# Altium integrated library Infineon XMC4000.IntLib: 43 symbols (part 1 of 3)
Pins are listed as number, name and electrical type; pins without a type are passive.

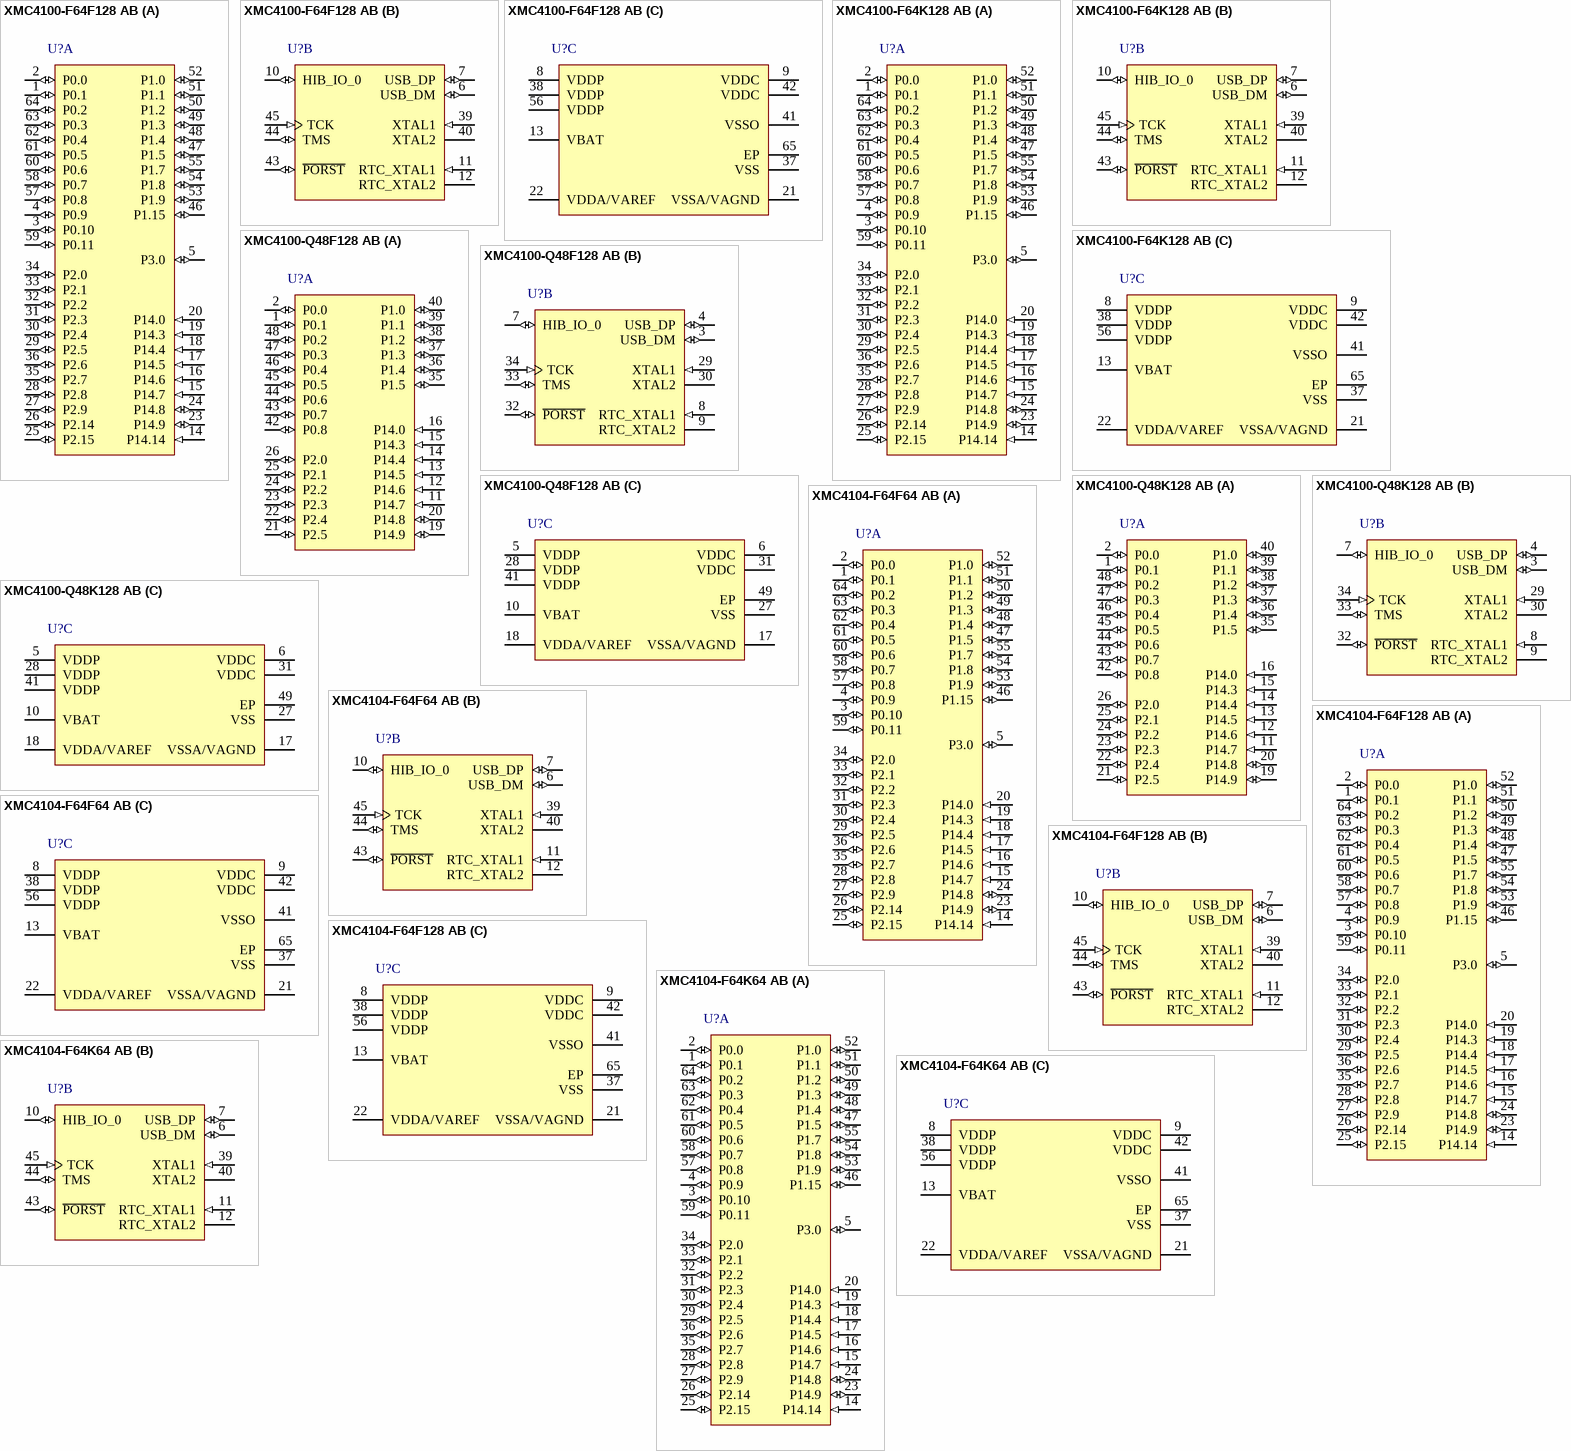
[diagram p0: symbols XMC4100-F64F128 AB to XMC4104-F64K64 AB]

## XMC4100-F64F128 AB
designator U?
80 MHz XMC4100 MCU with 128 KByte Program Memory, 20 KByte SRAM, 3.3 V, -40 to 85 degC, PG-LQFP-64, Green; Manufacturer: Infineon; PartNumber: XMC4100-F64F128 AB; A / D input lines (incl. FADC): 9; Digital I/O Lines: 35; Program Memory: 128.0 KByte; SRAM (incl. Cache): 20.0 KByte; Type of Serial I/O Interfaces: 4xSPI, Dual SPI, Quad SPI, UART, LIN, IIC, IIS; DatasheetVersion: V0.6; PackageVersion: V13; PackageReference: PG-LQFP-64-19; PackageDescription: 64-Pin Plastic (Green) Low Profile Quad Flat Package, 10 x 10 mm Body, 0.5 mm Pitch; Halogen-free: TRUE; Mounting Technology: Surface Mount; ComponentLink1Description: Manufacturer URL; ComponentLink1URL: http://www.infineon.com; ComponentLink2Description: Datasheet; ComponentLink2URL: http://www.infineon.com/dgdl/xmc4100_xmc4200_ds_v0.6_2012_11.pdf?folderId=db3a30433580b3710135a47f3eb76c98&fileId=db3a30433afc7e3e013b3cf9b2816573&location=en.Products.Microcontrollers.32-bit_Industrial_Microcontrollers_based_on_ARM__Cortex_-M.32-bit_XMC4000_Industrial_Microcontrollers_ARM__Cortex_-M4.DATASHEET.xmc4100_xmc4200_ds_v0.6_2012_11.pdf; ComponentLink3Description: Package Specification; ComponentLink3URL: http://www.infineon.com/dgdl/xmc4100_xmc4200_ds_v0.6_2012_11.pdf?folderId=db3a30433580b3710135a47f3eb76c98&fileId=db3a30433afc7e3e013b3cf9b2816573&location=en.Products.Microcontrollers.32-bit_Industrial_Microcontrollers_based_on_ARM__Cortex_-M.32-bit_XMC4000_Industrial_Microcontrollers_ARM__Cortex_-M4.DATASHEET.xmc4100_xmc4200_ds_v0.6_2012_11.pdf
footprint INF-PG-LQFP-64-19-5800X5800TP_N (QFP, 64-Leads, Body 10x10mm, Pitch 0.5mm, Thermal Pad 5.8x5.8mm, IPC Medium Density)
footprint INF-PG-LQFP-64-19-5800X5800TP_L (QFP, 64-Leads, Body 10x10mm, Pitch 0.5mm, Thermal Pad 5.8x5.8mm, IPC High Density)
footprint INF-PG-LQFP-64-19-5800X5800TP_M (QFP, 64-Leads, Body 10x10mm, Pitch 0.5mm, Thermal Pad 5.8x5.8mm, IPC Low Density)
part A pins: 1 P0.1 (io), 2 P0.0 (io), 3 P0.10 (io), 4 P0.9 (io), 5 P3.0 (io), 14 P14.14 (in), 15 P14.7 (in), 16 P14.6 (in), 17 P14.5 (in), 18 P14.4 (in), 19 P14.3 (in), 20 P14.0 (in), 23 P14.9 (io), 24 P14.8 (io), 25 P2.15 (io), 26 P2.14 (io), 27 P2.9 (io), 28 P2.8 (io), 29 P2.5 (io), 30 P2.4 (io), 31 P2.3 (io), 32 P2.2 (io), 33 P2.1 (io), 34 P2.0 (io), 35 P2.7 (io), 36 P2.6 (io), 46 P1.15 (io), 47 P1.5 (io), 48 P1.4 (io), 49 P1.3 (io), 50 P1.2 (io), 51 P1.1 (io), 52 P1.0 (io), 53 P1.9 (io), 54 P1.8 (io), 55 P1.7 (io), 57 P0.8 (io), 58 P0.7 (io), 59 P0.11 (io), 60 P0.6 (io), 61 P0.5 (io), 62 P0.4 (io), 63 P0.3 (io), 64 P0.2 (io)
part B pins: 6 USB_DM (io), 7 USB_DP (io), 10 HIB_IO_0 (io), 11 RTC_XTAL1 (in), 12 RTC_XTAL2, 39 XTAL1 (in), 40 XTAL2, 43 ~{PORST} (io), 44 TMS (io), 45 TCK (in)
part C pins: 8 VDDP (power), 9 VDDC (power), 13 VBAT (power), 21 VSSA/VAGND (power), 22 VDDA/VAREF (power), 37 VSS (power), 38 VDDP (power), 41 VSSO (power), 42 VDDC (power), 56 VDDP (power), 65 EP (power)

## XMC4100-F64K128 AB
designator U?
80 MHz XMC4100 MCU with 128 KByte Program Memory, 20 KByte SRAM, 3.3 V, -40 to 125 degC, PG-LQFP-64, Green; Manufacturer: Infineon; PartNumber: XMC4100-F64K128 AB; A / D input lines (incl. FADC): 9; Digital I/O Lines: 35; Program Memory: 128.0 KByte; SRAM (incl. Cache): 20.0 KByte; Type of Serial I/O Interfaces: 4xSPI, Dual SPI, Quad SPI, UART, LIN, IIC, IIS; DatasheetVersion: V0.6; PackageVersion: V13; PackageReference: PG-LQFP-64-19; PackageDescription: 64-Pin Plastic (Green) Low Profile Quad Flat Package, 10 x 10 mm Body, 0.5 mm Pitch; Halogen-free: TRUE; Mounting Technology: Surface Mount; ComponentLink1Description: Manufacturer URL; ComponentLink1URL: http://www.infineon.com; ComponentLink2Description: Datasheet; ComponentLink2URL: http://www.infineon.com/dgdl/xmc4100_xmc4200_ds_v0.6_2012_11.pdf?folderId=db3a30433580b3710135a47f3eb76c98&fileId=db3a30433afc7e3e013b3cf9b2816573&location=en.Products.Microcontrollers.32-bit_Industrial_Microcontrollers_based_on_ARM__Cortex_-M.32-bit_XMC4000_Industrial_Microcontrollers_ARM__Cortex_-M4.DATASHEET.xmc4100_xmc4200_ds_v0.6_2012_11.pdf; ComponentLink3Description: Package Specification; ComponentLink3URL: http://www.infineon.com/dgdl/xmc4100_xmc4200_ds_v0.6_2012_11.pdf?folderId=db3a30433580b3710135a47f3eb76c98&fileId=db3a30433afc7e3e013b3cf9b2816573&location=en.Products.Microcontrollers.32-bit_Industrial_Microcontrollers_based_on_ARM__Cortex_-M.32-bit_XMC4000_Industrial_Microcontrollers_ARM__Cortex_-M4.DATASHEET.xmc4100_xmc4200_ds_v0.6_2012_11.pdf
footprint INF-PG-LQFP-64-19-5800X5800TP_N (QFP, 64-Leads, Body 10x10mm, Pitch 0.5mm, Thermal Pad 5.8x5.8mm, IPC Medium Density)
footprint INF-PG-LQFP-64-19-5800X5800TP_L (QFP, 64-Leads, Body 10x10mm, Pitch 0.5mm, Thermal Pad 5.8x5.8mm, IPC High Density)
footprint INF-PG-LQFP-64-19-5800X5800TP_M (QFP, 64-Leads, Body 10x10mm, Pitch 0.5mm, Thermal Pad 5.8x5.8mm, IPC Low Density)
part A pins: 1 P0.1 (io), 2 P0.0 (io), 3 P0.10 (io), 4 P0.9 (io), 5 P3.0 (io), 14 P14.14 (in), 15 P14.7 (in), 16 P14.6 (in), 17 P14.5 (in), 18 P14.4 (in), 19 P14.3 (in), 20 P14.0 (in), 23 P14.9 (io), 24 P14.8 (io), 25 P2.15 (io), 26 P2.14 (io), 27 P2.9 (io), 28 P2.8 (io), 29 P2.5 (io), 30 P2.4 (io), 31 P2.3 (io), 32 P2.2 (io), 33 P2.1 (io), 34 P2.0 (io), 35 P2.7 (io), 36 P2.6 (io), 46 P1.15 (io), 47 P1.5 (io), 48 P1.4 (io), 49 P1.3 (io), 50 P1.2 (io), 51 P1.1 (io), 52 P1.0 (io), 53 P1.9 (io), 54 P1.8 (io), 55 P1.7 (io), 57 P0.8 (io), 58 P0.7 (io), 59 P0.11 (io), 60 P0.6 (io), 61 P0.5 (io), 62 P0.4 (io), 63 P0.3 (io), 64 P0.2 (io)
part B pins: 6 USB_DM (io), 7 USB_DP (io), 10 HIB_IO_0 (io), 11 RTC_XTAL1 (in), 12 RTC_XTAL2, 39 XTAL1 (in), 40 XTAL2, 43 ~{PORST} (io), 44 TMS (io), 45 TCK (in)
part C pins: 8 VDDP (power), 9 VDDC (power), 13 VBAT (power), 21 VSSA/VAGND (power), 22 VDDA/VAREF (power), 37 VSS (power), 38 VDDP (power), 41 VSSO (power), 42 VDDC (power), 56 VDDP (power), 65 EP (power)

## XMC4100-Q48F128 AB
designator U?
80 MHz XMC4100 MCU with 128 KByte Program Memory, 20 KByte SRAM, 3.3 V, -40 to 85 degC, PG-VQFN-48, Green; Manufacturer: Infineon; PartNumber: XMC4100-Q48F128 AB; A / D input lines (incl. FADC): 8; Digital I/O Lines: 21; Program Memory: 128.0 KByte; SRAM (incl. Cache): 20.0 KByte; Type of Serial I/O Interfaces: 4xSPI, Dual SPI, Quad SPI, UART, LIN, IIC, IIS; DatasheetVersion: V0.6; PackageVersion: V0.6; PackageReference: PG-VQFN-48-53; PackageDescription: 48-Pin Plastic (Green) Very Thin Profile Quad Flat Non Leaded Package, 7 x 7 mm Body, 0.5 mm Pitch; Halogen-free: TRUE; Mounting Technology: Surface Mount; ComponentLink1Description: Manufacturer URL; ComponentLink1URL: http://www.infineon.com; ComponentLink2Description: Datasheet; ComponentLink2URL: http://www.infineon.com/dgdl/xmc4100_xmc4200_ds_v0.6_2012_11.pdf?folderId=db3a30433580b3710135a47f3eb76c98&fileId=db3a30433afc7e3e013b3cf9b2816573&location=en.Products.Microcontrollers.32-bit_Industrial_Microcontrollers_based_on_ARM__Cortex_-M.32-bit_XMC4000_Industrial_Microcontrollers_ARM__Cortex_-M4.DATASHEET.xmc4100_xmc4200_ds_v0.6_2012_11.pdf; ComponentLink3Description: Package Specification; ComponentLink3URL: http://www.infineon.com/dgdl/PG-VQFN-48-15%2C-19%2C-20%2C-22%2C-24%2C-48%2C-51%2C-52%2C-53%2C-54%2C-55%2C-56%2C-57-Package_Overview.pdf?folderId=db3a304319c6f18c0119e80a8f2559bf&fileId=db3a304319c6f18c011a0b8b18c33200
footprint INF-PG-VQFN-48-53-5200X5200TP_N (QFN, 48-Leads, Body 7x7mm, Pitch 0.5mm, Thermal Pad 5.2x5.2mm, IPC Medium Density)
footprint INF-PG-VQFN-48-53-5200X5200TP_L (QFN, 48-Leads, Body 7x7mm, Pitch 0.5mm, Thermal Pad 5.2x5.2mm, IPC High Density)
footprint INF-PG-VQFN-48-53-5200X5200TP_M (QFN, 48-Leads, Body 7x7mm, Pitch 0.5mm, Thermal Pad 5.2x5.2mm, IPC Low Density)
part A pins: 1 P0.1 (io), 2 P0.0 (io), 11 P14.7 (in), 12 P14.6 (in), 13 P14.5 (in), 14 P14.4 (in), 15 P14.3 (in), 16 P14.0 (in), 19 P14.9 (io), 20 P14.8 (io), 21 P2.5 (io), 22 P2.4 (io), 23 P2.3 (io), 24 P2.2 (io), 25 P2.1 (io), 26 P2.0 (io), 35 P1.5 (io), 36 P1.4 (io), 37 P1.3 (io), 38 P1.2 (io), 39 P1.1 (io), 40 P1.0 (io), 42 P0.8 (io), 43 P0.7 (io), 44 P0.6 (io), 45 P0.5 (io), 46 P0.4 (io), 47 P0.3 (io), 48 P0.2 (io)
part B pins: 3 USB_DM (io), 4 USB_DP (io), 7 HIB_IO_0 (io), 8 RTC_XTAL1 (in), 9 RTC_XTAL2, 29 XTAL1 (in), 30 XTAL2, 32 ~{PORST} (io), 33 TMS (io), 34 TCK (in)
part C pins: 5 VDDP (power), 6 VDDC (power), 10 VBAT (power), 17 VSSA/VAGND (power), 18 VDDA/VAREF (power), 27 VSS (power), 28 VDDP (power), 31 VDDC (power), 41 VDDP (power), 49 EP (power)

## XMC4100-Q48K128 AB
designator U?
80 MHz XMC4100 MCU with 128 KByte Program Memory, 20 KByte SRAM, 3.3 V, -40 to 125 degC, PG-VQFN-48, Green; Manufacturer: Infineon; PartNumber: XMC4100-Q48K128 AB; A / D input lines (incl. FADC): 8; Digital I/O Lines: 21; Program Memory: 128.0 KByte; SRAM (incl. Cache): 20.0 KByte; Type of Serial I/O Interfaces: 4xSPI, Dual SPI, Quad SPI, UART, LIN, IIC, IIS; DatasheetVersion: V0.6; PackageVersion: V0.6; PackageReference: PG-VQFN-48-53; PackageDescription: 48-Pin Plastic (Green) Very Thin Profile Quad Flat Non Leaded Package, 7 x 7 mm Body, 0.5 mm Pitch; Halogen-free: TRUE; Mounting Technology: Surface Mount; ComponentLink1Description: Manufacturer URL; ComponentLink1URL: http://www.infineon.com; ComponentLink2Description: Datasheet; ComponentLink2URL: http://www.infineon.com/dgdl/xmc4100_xmc4200_ds_v0.6_2012_11.pdf?folderId=db3a30433580b3710135a47f3eb76c98&fileId=db3a30433afc7e3e013b3cf9b2816573&location=en.Products.Microcontrollers.32-bit_Industrial_Microcontrollers_based_on_ARM__Cortex_-M.32-bit_XMC4000_Industrial_Microcontrollers_ARM__Cortex_-M4.DATASHEET.xmc4100_xmc4200_ds_v0.6_2012_11.pdf; ComponentLink3Description: Package Specification; ComponentLink3URL: http://www.infineon.com/dgdl/PG-VQFN-48-15%2C-19%2C-20%2C-22%2C-24%2C-48%2C-51%2C-52%2C-53%2C-54%2C-55%2C-56%2C-57-Package_Overview.pdf?folderId=db3a304319c6f18c0119e80a8f2559bf&fileId=db3a304319c6f18c011a0b8b18c33200
footprint INF-PG-VQFN-48-53-5200X5200TP_N (QFN, 48-Leads, Body 7x7mm, Pitch 0.5mm, Thermal Pad 5.2x5.2mm, IPC Medium Density)
footprint INF-PG-VQFN-48-53-5200X5200TP_L (QFN, 48-Leads, Body 7x7mm, Pitch 0.5mm, Thermal Pad 5.2x5.2mm, IPC High Density)
footprint INF-PG-VQFN-48-53-5200X5200TP_M (QFN, 48-Leads, Body 7x7mm, Pitch 0.5mm, Thermal Pad 5.2x5.2mm, IPC Low Density)
part A pins: 1 P0.1 (io), 2 P0.0 (io), 11 P14.7 (in), 12 P14.6 (in), 13 P14.5 (in), 14 P14.4 (in), 15 P14.3 (in), 16 P14.0 (in), 19 P14.9 (io), 20 P14.8 (io), 21 P2.5 (io), 22 P2.4 (io), 23 P2.3 (io), 24 P2.2 (io), 25 P2.1 (io), 26 P2.0 (io), 35 P1.5 (io), 36 P1.4 (io), 37 P1.3 (io), 38 P1.2 (io), 39 P1.1 (io), 40 P1.0 (io), 42 P0.8 (io), 43 P0.7 (io), 44 P0.6 (io), 45 P0.5 (io), 46 P0.4 (io), 47 P0.3 (io), 48 P0.2 (io)
part B pins: 3 USB_DM (io), 4 USB_DP (io), 7 HIB_IO_0 (io), 8 RTC_XTAL1 (in), 9 RTC_XTAL2, 29 XTAL1 (in), 30 XTAL2, 32 ~{PORST} (io), 33 TMS (io), 34 TCK (in)
part C pins: 5 VDDP (power), 6 VDDC (power), 10 VBAT (power), 17 VSSA/VAGND (power), 18 VDDA/VAREF (power), 27 VSS (power), 28 VDDP (power), 31 VDDC (power), 41 VDDP (power), 49 EP (power)

## XMC4104-F64F64 AB
designator U?
80 MHz XMC4100 MCU with 64 KByte Program Memory, 20 KByte SRAM, 3.3 V, -40 to 85 degC, PG-LQFP-64, Green; Manufacturer: Infineon; PartNumber: XMC4104-F64F64 AB; A / D input lines (incl. FADC): 9; Digital I/O Lines: 35; Program Memory: 64.0 KByte; SRAM (incl. Cache): 20.0 KByte; Type of Serial I/O Interfaces: 4xSPI, Dual SPI, Quad SPI, UART, LIN, IIC, IIS; DatasheetVersion: V0.6; PackageVersion: V13; PackageReference: PG-LQFP-64-19; PackageDescription: 64-Pin Plastic (Green) Low Profile Quad Flat Package, 10 x 10 mm Body, 0.5 mm Pitch; Halogen-free: TRUE; Mounting Technology: Surface Mount; ComponentLink1Description: Manufacturer URL; ComponentLink1URL: http://www.infineon.com; ComponentLink2Description: Datasheet; ComponentLink2URL: http://www.infineon.com/dgdl/xmc4100_xmc4200_ds_v0.6_2012_11.pdf?folderId=db3a30433580b3710135a47f3eb76c98&fileId=db3a30433afc7e3e013b3cf9b2816573&location=en.Products.Microcontrollers.32-bit_Industrial_Microcontrollers_based_on_ARM__Cortex_-M.32-bit_XMC4000_Industrial_Microcontrollers_ARM__Cortex_-M4.DATASHEET.xmc4100_xmc4200_ds_v0.6_2012_11.pdf; ComponentLink3Description: Package Specification; ComponentLink3URL: http://www.infineon.com/dgdl/xmc4100_xmc4200_ds_v0.6_2012_11.pdf?folderId=db3a30433580b3710135a47f3eb76c98&fileId=db3a30433afc7e3e013b3cf9b2816573&location=en.Products.Microcontrollers.32-bit_Industrial_Microcontrollers_based_on_ARM__Cortex_-M.32-bit_XMC4000_Industrial_Microcontrollers_ARM__Cortex_-M4.DATASHEET.xmc4100_xmc4200_ds_v0.6_2012_11.pdf
footprint INF-PG-LQFP-64-19-5800X5800TP_N (QFP, 64-Leads, Body 10x10mm, Pitch 0.5mm, Thermal Pad 5.8x5.8mm, IPC Medium Density)
footprint INF-PG-LQFP-64-19-5800X5800TP_L (QFP, 64-Leads, Body 10x10mm, Pitch 0.5mm, Thermal Pad 5.8x5.8mm, IPC High Density)
footprint INF-PG-LQFP-64-19-5800X5800TP_M (QFP, 64-Leads, Body 10x10mm, Pitch 0.5mm, Thermal Pad 5.8x5.8mm, IPC Low Density)
part A pins: 1 P0.1 (io), 2 P0.0 (io), 3 P0.10 (io), 4 P0.9 (io), 5 P3.0 (io), 14 P14.14 (in), 15 P14.7 (in), 16 P14.6 (in), 17 P14.5 (in), 18 P14.4 (in), 19 P14.3 (in), 20 P14.0 (in), 23 P14.9 (io), 24 P14.8 (io), 25 P2.15 (io), 26 P2.14 (io), 27 P2.9 (io), 28 P2.8 (io), 29 P2.5 (io), 30 P2.4 (io), 31 P2.3 (io), 32 P2.2 (io), 33 P2.1 (io), 34 P2.0 (io), 35 P2.7 (io), 36 P2.6 (io), 46 P1.15 (io), 47 P1.5 (io), 48 P1.4 (io), 49 P1.3 (io), 50 P1.2 (io), 51 P1.1 (io), 52 P1.0 (io), 53 P1.9 (io), 54 P1.8 (io), 55 P1.7 (io), 57 P0.8 (io), 58 P0.7 (io), 59 P0.11 (io), 60 P0.6 (io), 61 P0.5 (io), 62 P0.4 (io), 63 P0.3 (io), 64 P0.2 (io)
part B pins: 6 USB_DM (io), 7 USB_DP (io), 10 HIB_IO_0 (io), 11 RTC_XTAL1 (in), 12 RTC_XTAL2, 39 XTAL1 (in), 40 XTAL2, 43 ~{PORST} (io), 44 TMS (io), 45 TCK (in)
part C pins: 8 VDDP (power), 9 VDDC (power), 13 VBAT (power), 21 VSSA/VAGND (power), 22 VDDA/VAREF (power), 37 VSS (power), 38 VDDP (power), 41 VSSO (power), 42 VDDC (power), 56 VDDP (power), 65 EP (power)

## XMC4104-F64F128 AB
designator U?
80 MHz XMC4100 MCU with 128 KByte Program Memory, 20 KByte SRAM, 3.3 V, -40 to 85 degC, PG-LQFP-64, Green; Manufacturer: Infineon; PartNumber: XMC4104-F64F128 AB; A / D input lines (incl. FADC): 9; Digital I/O Lines: 35; Program Memory: 128.0 KByte; SRAM (incl. Cache): 20.0 KByte; Type of Serial I/O Interfaces: 4xSPI, Dual SPI, Quad SPI, UART, LIN, IIC, IIS; DatasheetVersion: V0.6; PackageVersion: V13; PackageReference: PG-LQFP-64-19; PackageDescription: 64-Pin Plastic (Green) Low Profile Quad Flat Package, 10 x 10 mm Body, 0.5 mm Pitch; Halogen-free: TRUE; Mounting Technology: Surface Mount; ComponentLink1Description: Manufacturer URL; ComponentLink1URL: http://www.infineon.com; ComponentLink2Description: Datasheet; ComponentLink2URL: http://www.infineon.com/dgdl/xmc4100_xmc4200_ds_v0.6_2012_11.pdf?folderId=db3a30433580b3710135a47f3eb76c98&fileId=db3a30433afc7e3e013b3cf9b2816573&location=en.Products.Microcontrollers.32-bit_Industrial_Microcontrollers_based_on_ARM__Cortex_-M.32-bit_XMC4000_Industrial_Microcontrollers_ARM__Cortex_-M4.DATASHEET.xmc4100_xmc4200_ds_v0.6_2012_11.pdf; ComponentLink3Description: Package Specification; ComponentLink3URL: http://www.infineon.com/dgdl/xmc4100_xmc4200_ds_v0.6_2012_11.pdf?folderId=db3a30433580b3710135a47f3eb76c98&fileId=db3a30433afc7e3e013b3cf9b2816573&location=en.Products.Microcontrollers.32-bit_Industrial_Microcontrollers_based_on_ARM__Cortex_-M.32-bit_XMC4000_Industrial_Microcontrollers_ARM__Cortex_-M4.DATASHEET.xmc4100_xmc4200_ds_v0.6_2012_11.pdf
footprint INF-PG-LQFP-64-19-5800X5800TP_N (QFP, 64-Leads, Body 10x10mm, Pitch 0.5mm, Thermal Pad 5.8x5.8mm, IPC Medium Density)
footprint INF-PG-LQFP-64-19-5800X5800TP_L (QFP, 64-Leads, Body 10x10mm, Pitch 0.5mm, Thermal Pad 5.8x5.8mm, IPC High Density)
footprint INF-PG-LQFP-64-19-5800X5800TP_M (QFP, 64-Leads, Body 10x10mm, Pitch 0.5mm, Thermal Pad 5.8x5.8mm, IPC Low Density)
part A pins: 1 P0.1 (io), 2 P0.0 (io), 3 P0.10 (io), 4 P0.9 (io), 5 P3.0 (io), 14 P14.14 (in), 15 P14.7 (in), 16 P14.6 (in), 17 P14.5 (in), 18 P14.4 (in), 19 P14.3 (in), 20 P14.0 (in), 23 P14.9 (io), 24 P14.8 (io), 25 P2.15 (io), 26 P2.14 (io), 27 P2.9 (io), 28 P2.8 (io), 29 P2.5 (io), 30 P2.4 (io), 31 P2.3 (io), 32 P2.2 (io), 33 P2.1 (io), 34 P2.0 (io), 35 P2.7 (io), 36 P2.6 (io), 46 P1.15 (io), 47 P1.5 (io), 48 P1.4 (io), 49 P1.3 (io), 50 P1.2 (io), 51 P1.1 (io), 52 P1.0 (io), 53 P1.9 (io), 54 P1.8 (io), 55 P1.7 (io), 57 P0.8 (io), 58 P0.7 (io), 59 P0.11 (io), 60 P0.6 (io), 61 P0.5 (io), 62 P0.4 (io), 63 P0.3 (io), 64 P0.2 (io)
part B pins: 6 USB_DM (io), 7 USB_DP (io), 10 HIB_IO_0 (io), 11 RTC_XTAL1 (in), 12 RTC_XTAL2, 39 XTAL1 (in), 40 XTAL2, 43 ~{PORST} (io), 44 TMS (io), 45 TCK (in)
part C pins: 8 VDDP (power), 9 VDDC (power), 13 VBAT (power), 21 VSSA/VAGND (power), 22 VDDA/VAREF (power), 37 VSS (power), 38 VDDP (power), 41 VSSO (power), 42 VDDC (power), 56 VDDP (power), 65 EP (power)

## XMC4104-F64K64 AB
designator U?
80 MHz XMC4100 MCU with 64 KByte Program Memory, 20 KByte SRAM, 3.3 V, -40 to 125 degC, PG-LQFP-64, Green; Manufacturer: Infineon; PartNumber: XMC4104-F64K64 AB; A / D input lines (incl. FADC): 9; Digital I/O Lines: 35; Program Memory: 64.0 KByte; SRAM (incl. Cache): 20.0 KByte; Type of Serial I/O Interfaces: 4xSPI, Dual SPI, Quad SPI, UART, LIN, IIC, IIS; DatasheetVersion: V0.6; PackageVersion: V13; PackageReference: PG-LQFP-64-19; PackageDescription: 64-Pin Plastic (Green) Low Profile Quad Flat Package, 10 x 10 mm Body, 0.5 mm Pitch; Halogen-free: TRUE; Mounting Technology: Surface Mount; ComponentLink1Description: Manufacturer URL; ComponentLink1URL: http://www.infineon.com; ComponentLink2Description: Datasheet; ComponentLink2URL: http://www.infineon.com/dgdl/xmc4100_xmc4200_ds_v0.6_2012_11.pdf?folderId=db3a30433580b3710135a47f3eb76c98&fileId=db3a30433afc7e3e013b3cf9b2816573&location=en.Products.Microcontrollers.32-bit_Industrial_Microcontrollers_based_on_ARM__Cortex_-M.32-bit_XMC4000_Industrial_Microcontrollers_ARM__Cortex_-M4.DATASHEET.xmc4100_xmc4200_ds_v0.6_2012_11.pdf; ComponentLink3Description: Package Specification; ComponentLink3URL: http://www.infineon.com/dgdl/xmc4100_xmc4200_ds_v0.6_2012_11.pdf?folderId=db3a30433580b3710135a47f3eb76c98&fileId=db3a30433afc7e3e013b3cf9b2816573&location=en.Products.Microcontrollers.32-bit_Industrial_Microcontrollers_based_on_ARM__Cortex_-M.32-bit_XMC4000_Industrial_Microcontrollers_ARM__Cortex_-M4.DATASHEET.xmc4100_xmc4200_ds_v0.6_2012_11.pdf
footprint INF-PG-LQFP-64-19-5800X5800TP_N (QFP, 64-Leads, Body 10x10mm, Pitch 0.5mm, Thermal Pad 5.8x5.8mm, IPC Medium Density)
footprint INF-PG-LQFP-64-19-5800X5800TP_L (QFP, 64-Leads, Body 10x10mm, Pitch 0.5mm, Thermal Pad 5.8x5.8mm, IPC High Density)
footprint INF-PG-LQFP-64-19-5800X5800TP_M (QFP, 64-Leads, Body 10x10mm, Pitch 0.5mm, Thermal Pad 5.8x5.8mm, IPC Low Density)
part A pins: 1 P0.1 (io), 2 P0.0 (io), 3 P0.10 (io), 4 P0.9 (io), 5 P3.0 (io), 14 P14.14 (in), 15 P14.7 (in), 16 P14.6 (in), 17 P14.5 (in), 18 P14.4 (in), 19 P14.3 (in), 20 P14.0 (in), 23 P14.9 (io), 24 P14.8 (io), 25 P2.15 (io), 26 P2.14 (io), 27 P2.9 (io), 28 P2.8 (io), 29 P2.5 (io), 30 P2.4 (io), 31 P2.3 (io), 32 P2.2 (io), 33 P2.1 (io), 34 P2.0 (io), 35 P2.7 (io), 36 P2.6 (io), 46 P1.15 (io), 47 P1.5 (io), 48 P1.4 (io), 49 P1.3 (io), 50 P1.2 (io), 51 P1.1 (io), 52 P1.0 (io), 53 P1.9 (io), 54 P1.8 (io), 55 P1.7 (io), 57 P0.8 (io), 58 P0.7 (io), 59 P0.11 (io), 60 P0.6 (io), 61 P0.5 (io), 62 P0.4 (io), 63 P0.3 (io), 64 P0.2 (io)
part B pins: 6 USB_DM (io), 7 USB_DP (io), 10 HIB_IO_0 (io), 11 RTC_XTAL1 (in), 12 RTC_XTAL2, 39 XTAL1 (in), 40 XTAL2, 43 ~{PORST} (io), 44 TMS (io), 45 TCK (in)
part C pins: 8 VDDP (power), 9 VDDC (power), 13 VBAT (power), 21 VSSA/VAGND (power), 22 VDDA/VAREF (power), 37 VSS (power), 38 VDDP (power), 41 VSSO (power), 42 VDDC (power), 56 VDDP (power), 65 EP (power)

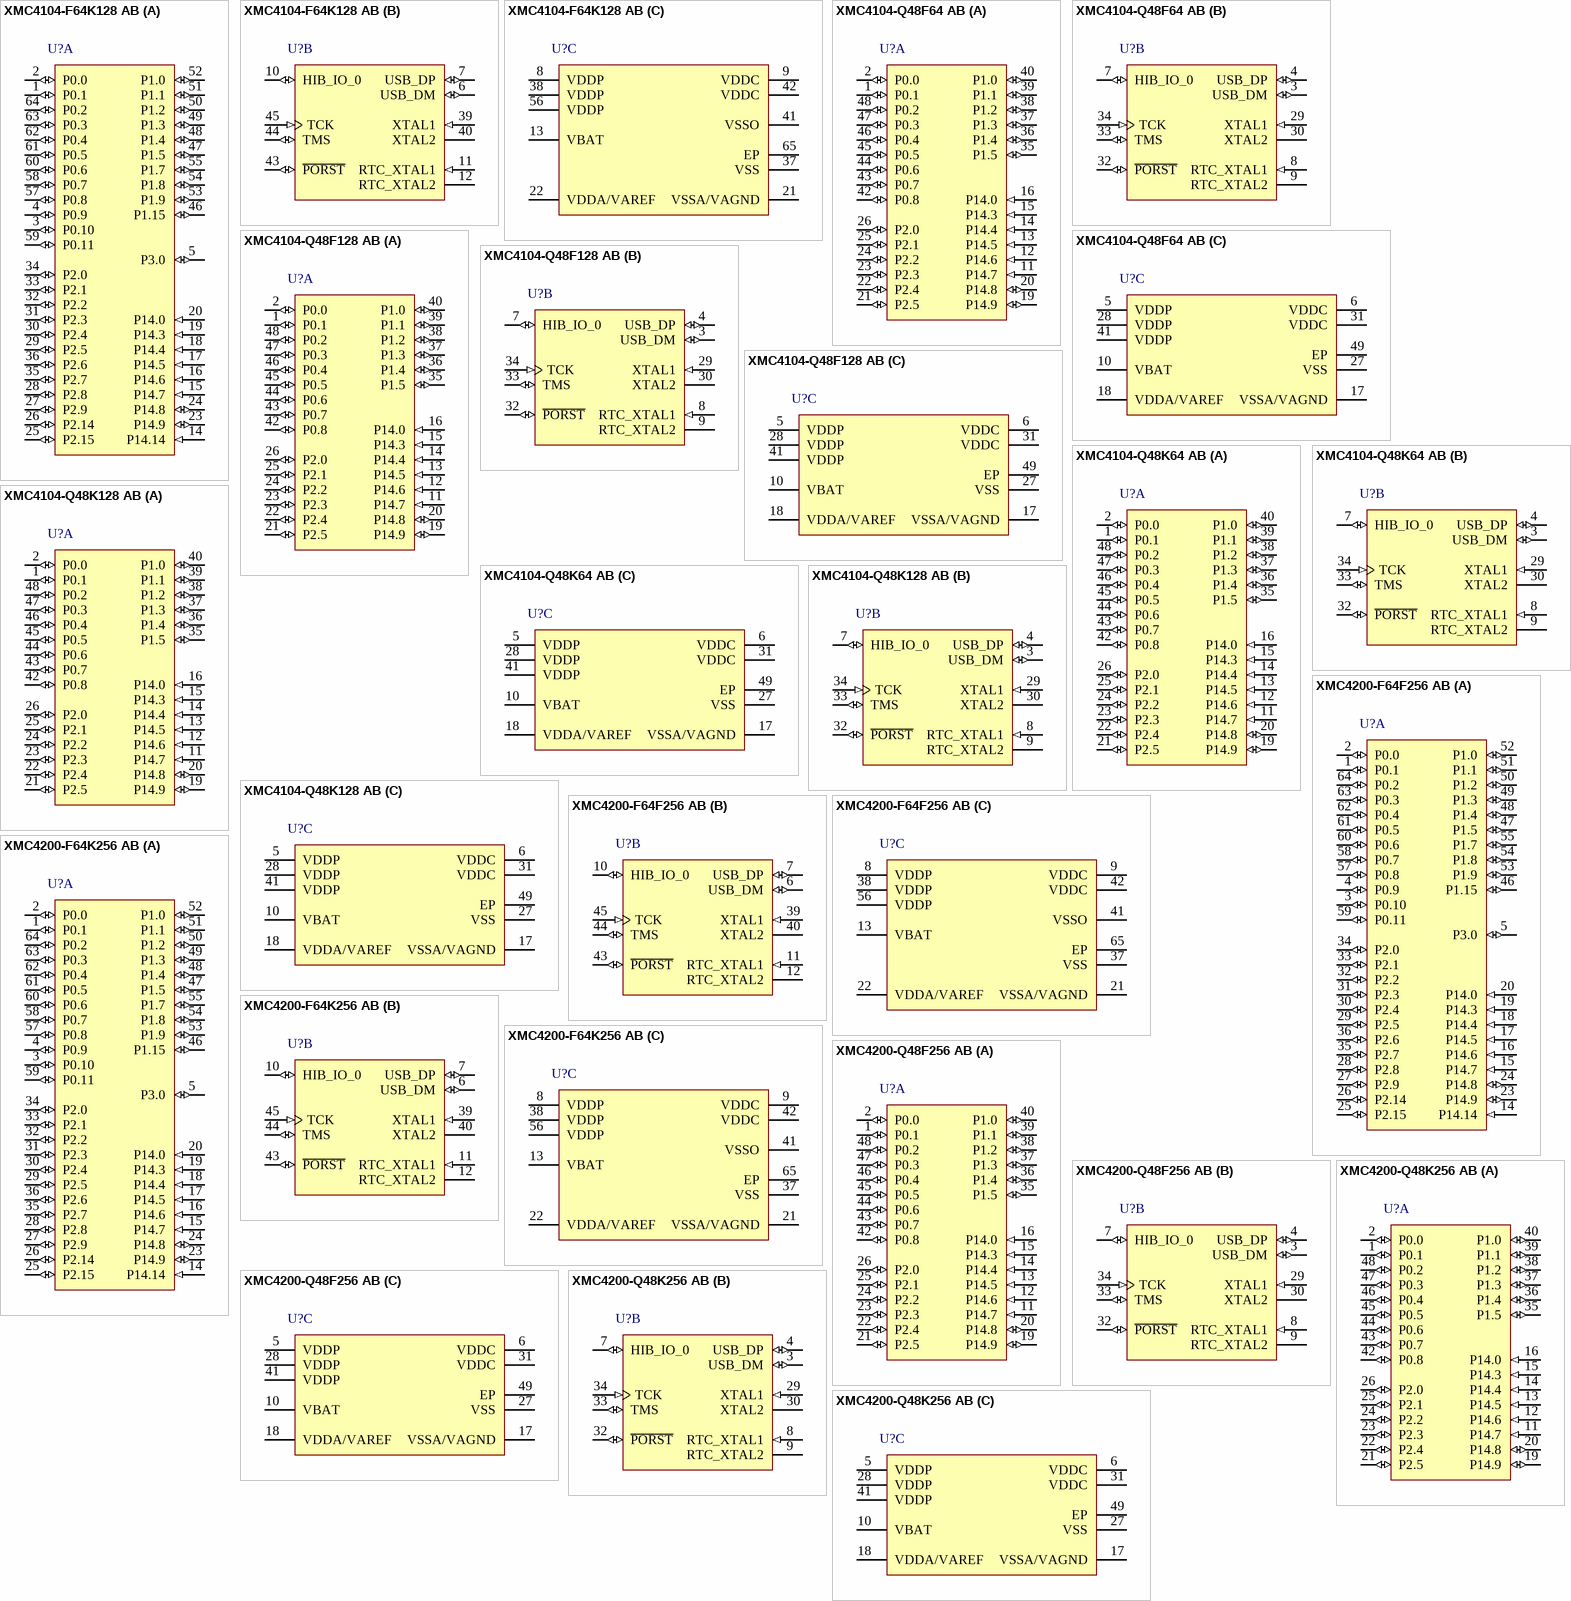
[diagram p1: symbols XMC4104-F64K128 AB to XMC4200-Q48K256 AB]

## XMC4104-F64K128 AB
designator U?
80 MHz XMC4100 MCU with 128 KByte Program Memory, 20 KByte SRAM, 3.3 V, -40 to 125 degC, PG-LQFP-64, Green; Manufacturer: Infineon; PartNumber: XMC4104-F64K128 AB; A / D input lines (incl. FADC): 9; Digital I/O Lines: 35; Program Memory: 128.0 KByte; SRAM (incl. Cache): 20.0 KByte; Type of Serial I/O Interfaces: 4xSPI, Dual SPI, Quad SPI, UART, LIN, IIC, IIS; DatasheetVersion: V0.6; PackageVersion: V13; PackageReference: PG-LQFP-64-19; PackageDescription: 64-Pin Plastic (Green) Low Profile Quad Flat Package, 10 x 10 mm Body, 0.5 mm Pitch; Halogen-free: TRUE; Mounting Technology: Surface Mount; ComponentLink1Description: Manufacturer URL; ComponentLink1URL: http://www.infineon.com; ComponentLink2Description: Datasheet; ComponentLink2URL: http://www.infineon.com/dgdl/xmc4100_xmc4200_ds_v0.6_2012_11.pdf?folderId=db3a30433580b3710135a47f3eb76c98&fileId=db3a30433afc7e3e013b3cf9b2816573&location=en.Products.Microcontrollers.32-bit_Industrial_Microcontrollers_based_on_ARM__Cortex_-M.32-bit_XMC4000_Industrial_Microcontrollers_ARM__Cortex_-M4.DATASHEET.xmc4100_xmc4200_ds_v0.6_2012_11.pdf; ComponentLink3Description: Package Specification; ComponentLink3URL: http://www.infineon.com/dgdl/xmc4100_xmc4200_ds_v0.6_2012_11.pdf?folderId=db3a30433580b3710135a47f3eb76c98&fileId=db3a30433afc7e3e013b3cf9b2816573&location=en.Products.Microcontrollers.32-bit_Industrial_Microcontrollers_based_on_ARM__Cortex_-M.32-bit_XMC4000_Industrial_Microcontrollers_ARM__Cortex_-M4.DATASHEET.xmc4100_xmc4200_ds_v0.6_2012_11.pdf
footprint INF-PG-LQFP-64-19-5800X5800TP_N (QFP, 64-Leads, Body 10x10mm, Pitch 0.5mm, Thermal Pad 5.8x5.8mm, IPC Medium Density)
footprint INF-PG-LQFP-64-19-5800X5800TP_L (QFP, 64-Leads, Body 10x10mm, Pitch 0.5mm, Thermal Pad 5.8x5.8mm, IPC High Density)
footprint INF-PG-LQFP-64-19-5800X5800TP_M (QFP, 64-Leads, Body 10x10mm, Pitch 0.5mm, Thermal Pad 5.8x5.8mm, IPC Low Density)
part A pins: 1 P0.1 (io), 2 P0.0 (io), 3 P0.10 (io), 4 P0.9 (io), 5 P3.0 (io), 14 P14.14 (in), 15 P14.7 (in), 16 P14.6 (in), 17 P14.5 (in), 18 P14.4 (in), 19 P14.3 (in), 20 P14.0 (in), 23 P14.9 (io), 24 P14.8 (io), 25 P2.15 (io), 26 P2.14 (io), 27 P2.9 (io), 28 P2.8 (io), 29 P2.5 (io), 30 P2.4 (io), 31 P2.3 (io), 32 P2.2 (io), 33 P2.1 (io), 34 P2.0 (io), 35 P2.7 (io), 36 P2.6 (io), 46 P1.15 (io), 47 P1.5 (io), 48 P1.4 (io), 49 P1.3 (io), 50 P1.2 (io), 51 P1.1 (io), 52 P1.0 (io), 53 P1.9 (io), 54 P1.8 (io), 55 P1.7 (io), 57 P0.8 (io), 58 P0.7 (io), 59 P0.11 (io), 60 P0.6 (io), 61 P0.5 (io), 62 P0.4 (io), 63 P0.3 (io), 64 P0.2 (io)
part B pins: 6 USB_DM (io), 7 USB_DP (io), 10 HIB_IO_0 (io), 11 RTC_XTAL1 (in), 12 RTC_XTAL2, 39 XTAL1 (in), 40 XTAL2, 43 ~{PORST} (io), 44 TMS (io), 45 TCK (in)
part C pins: 8 VDDP (power), 9 VDDC (power), 13 VBAT (power), 21 VSSA/VAGND (power), 22 VDDA/VAREF (power), 37 VSS (power), 38 VDDP (power), 41 VSSO (power), 42 VDDC (power), 56 VDDP (power), 65 EP (power)

## XMC4104-Q48F64 AB
designator U?
80 MHz XMC4100 MCU with 64 KByte Program Memory, 20 KByte SRAM, 3.3 V, -40 to 85 degC, PG-VQFN-48, Green; Manufacturer: Infineon; PartNumber: XMC4104-Q48F64 AB; A / D input lines (incl. FADC): 8; Digital I/O Lines: 21; Program Memory: 64.0 KByte; SRAM (incl. Cache): 20.0 KByte; Type of Serial I/O Interfaces: 4xSPI, Dual SPI, Quad SPI, UART, LIN, IIC, IIS; DatasheetVersion: V0.6; PackageVersion: V0.6; PackageReference: PG-VQFN-48-53; PackageDescription: 48-Pin Plastic (Green) Very Thin Profile Quad Flat Non Leaded Package, 7 x 7 mm Body, 0.5 mm Pitch; Halogen-free: TRUE; Mounting Technology: Surface Mount; ComponentLink1Description: Manufacturer URL; ComponentLink1URL: http://www.infineon.com; ComponentLink2Description: Datasheet; ComponentLink2URL: http://www.infineon.com/dgdl/xmc4100_xmc4200_ds_v0.6_2012_11.pdf?folderId=db3a30433580b3710135a47f3eb76c98&fileId=db3a30433afc7e3e013b3cf9b2816573&location=en.Products.Microcontrollers.32-bit_Industrial_Microcontrollers_based_on_ARM__Cortex_-M.32-bit_XMC4000_Industrial_Microcontrollers_ARM__Cortex_-M4.DATASHEET.xmc4100_xmc4200_ds_v0.6_2012_11.pdf; ComponentLink3Description: Package Specification; ComponentLink3URL: http://www.infineon.com/dgdl/PG-VQFN-48-15%2C-19%2C-20%2C-22%2C-24%2C-48%2C-51%2C-52%2C-53%2C-54%2C-55%2C-56%2C-57-Package_Overview.pdf?folderId=db3a304319c6f18c0119e80a8f2559bf&fileId=db3a304319c6f18c011a0b8b18c33200
footprint INF-PG-VQFN-48-53-5200X5200TP_N (QFN, 48-Leads, Body 7x7mm, Pitch 0.5mm, Thermal Pad 5.2x5.2mm, IPC Medium Density)
footprint INF-PG-VQFN-48-53-5200X5200TP_L (QFN, 48-Leads, Body 7x7mm, Pitch 0.5mm, Thermal Pad 5.2x5.2mm, IPC High Density)
footprint INF-PG-VQFN-48-53-5200X5200TP_M (QFN, 48-Leads, Body 7x7mm, Pitch 0.5mm, Thermal Pad 5.2x5.2mm, IPC Low Density)
part A pins: 1 P0.1 (io), 2 P0.0 (io), 11 P14.7 (in), 12 P14.6 (in), 13 P14.5 (in), 14 P14.4 (in), 15 P14.3 (in), 16 P14.0 (in), 19 P14.9 (io), 20 P14.8 (io), 21 P2.5 (io), 22 P2.4 (io), 23 P2.3 (io), 24 P2.2 (io), 25 P2.1 (io), 26 P2.0 (io), 35 P1.5 (io), 36 P1.4 (io), 37 P1.3 (io), 38 P1.2 (io), 39 P1.1 (io), 40 P1.0 (io), 42 P0.8 (io), 43 P0.7 (io), 44 P0.6 (io), 45 P0.5 (io), 46 P0.4 (io), 47 P0.3 (io), 48 P0.2 (io)
part B pins: 3 USB_DM (io), 4 USB_DP (io), 7 HIB_IO_0 (io), 8 RTC_XTAL1 (in), 9 RTC_XTAL2, 29 XTAL1 (in), 30 XTAL2, 32 ~{PORST} (io), 33 TMS (io), 34 TCK (in)
part C pins: 5 VDDP (power), 6 VDDC (power), 10 VBAT (power), 17 VSSA/VAGND (power), 18 VDDA/VAREF (power), 27 VSS (power), 28 VDDP (power), 31 VDDC (power), 41 VDDP (power), 49 EP (power)

## XMC4104-Q48F128 AB
designator U?
80 MHz XMC4100 MCU with 128 KByte Program Memory, 20 KByte SRAM, 3.3 V, -40 to 85 degC, PG-VQFN-48, Green; Manufacturer: Infineon; PartNumber: XMC4104-Q48F128 AB; A / D input lines (incl. FADC): 8; Digital I/O Lines: 21; Program Memory: 128.0 KByte; SRAM (incl. Cache): 20.0 KByte; Type of Serial I/O Interfaces: 4xSPI, Dual SPI, Quad SPI, UART, LIN, IIC, IIS; DatasheetVersion: V0.6; PackageVersion: V0.6; PackageReference: PG-VQFN-48-53; PackageDescription: 48-Pin Plastic (Green) Very Thin Profile Quad Flat Non Leaded Package, 7 x 7 mm Body, 0.5 mm Pitch; Halogen-free: TRUE; Mounting Technology: Surface Mount; ComponentLink1Description: Manufacturer URL; ComponentLink1URL: http://www.infineon.com; ComponentLink2Description: Datasheet; ComponentLink2URL: http://www.infineon.com/dgdl/xmc4100_xmc4200_ds_v0.6_2012_11.pdf?folderId=db3a30433580b3710135a47f3eb76c98&fileId=db3a30433afc7e3e013b3cf9b2816573&location=en.Products.Microcontrollers.32-bit_Industrial_Microcontrollers_based_on_ARM__Cortex_-M.32-bit_XMC4000_Industrial_Microcontrollers_ARM__Cortex_-M4.DATASHEET.xmc4100_xmc4200_ds_v0.6_2012_11.pdf; ComponentLink3Description: Package Specification; ComponentLink3URL: http://www.infineon.com/dgdl/PG-VQFN-48-15%2C-19%2C-20%2C-22%2C-24%2C-48%2C-51%2C-52%2C-53%2C-54%2C-55%2C-56%2C-57-Package_Overview.pdf?folderId=db3a304319c6f18c0119e80a8f2559bf&fileId=db3a304319c6f18c011a0b8b18c33200
footprint INF-PG-VQFN-48-53-5200X5200TP_N (QFN, 48-Leads, Body 7x7mm, Pitch 0.5mm, Thermal Pad 5.2x5.2mm, IPC Medium Density)
footprint INF-PG-VQFN-48-53-5200X5200TP_L (QFN, 48-Leads, Body 7x7mm, Pitch 0.5mm, Thermal Pad 5.2x5.2mm, IPC High Density)
footprint INF-PG-VQFN-48-53-5200X5200TP_M (QFN, 48-Leads, Body 7x7mm, Pitch 0.5mm, Thermal Pad 5.2x5.2mm, IPC Low Density)
part A pins: 1 P0.1 (io), 2 P0.0 (io), 11 P14.7 (in), 12 P14.6 (in), 13 P14.5 (in), 14 P14.4 (in), 15 P14.3 (in), 16 P14.0 (in), 19 P14.9 (io), 20 P14.8 (io), 21 P2.5 (io), 22 P2.4 (io), 23 P2.3 (io), 24 P2.2 (io), 25 P2.1 (io), 26 P2.0 (io), 35 P1.5 (io), 36 P1.4 (io), 37 P1.3 (io), 38 P1.2 (io), 39 P1.1 (io), 40 P1.0 (io), 42 P0.8 (io), 43 P0.7 (io), 44 P0.6 (io), 45 P0.5 (io), 46 P0.4 (io), 47 P0.3 (io), 48 P0.2 (io)
part B pins: 3 USB_DM (io), 4 USB_DP (io), 7 HIB_IO_0 (io), 8 RTC_XTAL1 (in), 9 RTC_XTAL2, 29 XTAL1 (in), 30 XTAL2, 32 ~{PORST} (io), 33 TMS (io), 34 TCK (in)
part C pins: 5 VDDP (power), 6 VDDC (power), 10 VBAT (power), 17 VSSA/VAGND (power), 18 VDDA/VAREF (power), 27 VSS (power), 28 VDDP (power), 31 VDDC (power), 41 VDDP (power), 49 EP (power)

## XMC4104-Q48K64 AB
designator U?
80 MHz XMC4100 MCU with 64 KByte Program Memory, 20 KByte SRAM, 3.3 V, -40 to 125 degC, PG-VQFN-48, Green; Manufacturer: Infineon; PartNumber: XMC4104-Q48K64 AB; A / D input lines (incl. FADC): 8; Digital I/O Lines: 21; Program Memory: 64.0 KByte; SRAM (incl. Cache): 20.0 KByte; Type of Serial I/O Interfaces: 4xSPI, Dual SPI, Quad SPI, UART, LIN, IIC, IIS; DatasheetVersion: V0.6; PackageVersion: V0.6; PackageReference: PG-VQFN-48-53; PackageDescription: 48-Pin Plastic (Green) Very Thin Profile Quad Flat Non Leaded Package, 7 x 7 mm Body, 0.5 mm Pitch; Halogen-free: TRUE; Mounting Technology: Surface Mount; ComponentLink1Description: Manufacturer URL; ComponentLink1URL: http://www.infineon.com; ComponentLink2Description: Datasheet; ComponentLink2URL: http://www.infineon.com/dgdl/xmc4100_xmc4200_ds_v0.6_2012_11.pdf?folderId=db3a30433580b3710135a47f3eb76c98&fileId=db3a30433afc7e3e013b3cf9b2816573&location=en.Products.Microcontrollers.32-bit_Industrial_Microcontrollers_based_on_ARM__Cortex_-M.32-bit_XMC4000_Industrial_Microcontrollers_ARM__Cortex_-M4.DATASHEET.xmc4100_xmc4200_ds_v0.6_2012_11.pdf; ComponentLink3Description: Package Specification; ComponentLink3URL: http://www.infineon.com/dgdl/PG-VQFN-48-15%2C-19%2C-20%2C-22%2C-24%2C-48%2C-51%2C-52%2C-53%2C-54%2C-55%2C-56%2C-57-Package_Overview.pdf?folderId=db3a304319c6f18c0119e80a8f2559bf&fileId=db3a304319c6f18c011a0b8b18c33200
footprint INF-PG-VQFN-48-53-5200X5200TP_N (QFN, 48-Leads, Body 7x7mm, Pitch 0.5mm, Thermal Pad 5.2x5.2mm, IPC Medium Density)
footprint INF-PG-VQFN-48-53-5200X5200TP_L (QFN, 48-Leads, Body 7x7mm, Pitch 0.5mm, Thermal Pad 5.2x5.2mm, IPC High Density)
footprint INF-PG-VQFN-48-53-5200X5200TP_M (QFN, 48-Leads, Body 7x7mm, Pitch 0.5mm, Thermal Pad 5.2x5.2mm, IPC Low Density)
part A pins: 1 P0.1 (io), 2 P0.0 (io), 11 P14.7 (in), 12 P14.6 (in), 13 P14.5 (in), 14 P14.4 (in), 15 P14.3 (in), 16 P14.0 (in), 19 P14.9 (io), 20 P14.8 (io), 21 P2.5 (io), 22 P2.4 (io), 23 P2.3 (io), 24 P2.2 (io), 25 P2.1 (io), 26 P2.0 (io), 35 P1.5 (io), 36 P1.4 (io), 37 P1.3 (io), 38 P1.2 (io), 39 P1.1 (io), 40 P1.0 (io), 42 P0.8 (io), 43 P0.7 (io), 44 P0.6 (io), 45 P0.5 (io), 46 P0.4 (io), 47 P0.3 (io), 48 P0.2 (io)
part B pins: 3 USB_DM (io), 4 USB_DP (io), 7 HIB_IO_0 (io), 8 RTC_XTAL1 (in), 9 RTC_XTAL2, 29 XTAL1 (in), 30 XTAL2, 32 ~{PORST} (io), 33 TMS (io), 34 TCK (in)
part C pins: 5 VDDP (power), 6 VDDC (power), 10 VBAT (power), 17 VSSA/VAGND (power), 18 VDDA/VAREF (power), 27 VSS (power), 28 VDDP (power), 31 VDDC (power), 41 VDDP (power), 49 EP (power)

## XMC4104-Q48K128 AB
designator U?
80 MHz XMC4100 MCU with 128 KByte Program Memory, 20 KByte SRAM, 3.3 V, -40 to 125 degC, PG-VQFN-48, Green; Manufacturer: Infineon; PartNumber: XMC4104-Q48K128 AB; A / D input lines (incl. FADC): 8; Digital I/O Lines: 21; Program Memory: 128.0 KByte; SRAM (incl. Cache): 20.0 KByte; Type of Serial I/O Interfaces: 4xSPI, Dual SPI, Quad SPI, UART, LIN, IIC, IIS; DatasheetVersion: V0.6; PackageVersion: V0.6; PackageReference: PG-VQFN-48-53; PackageDescription: 48-Pin Plastic (Green) Very Thin Profile Quad Flat Non Leaded Package, 7 x 7 mm Body, 0.5 mm Pitch; Halogen-free: TRUE; Mounting Technology: Surface Mount; ComponentLink1Description: Manufacturer URL; ComponentLink1URL: http://www.infineon.com; ComponentLink2Description: Datasheet; ComponentLink2URL: http://www.infineon.com/dgdl/xmc4100_xmc4200_ds_v0.6_2012_11.pdf?folderId=db3a30433580b3710135a47f3eb76c98&fileId=db3a30433afc7e3e013b3cf9b2816573&location=en.Products.Microcontrollers.32-bit_Industrial_Microcontrollers_based_on_ARM__Cortex_-M.32-bit_XMC4000_Industrial_Microcontrollers_ARM__Cortex_-M4.DATASHEET.xmc4100_xmc4200_ds_v0.6_2012_11.pdf; ComponentLink3Description: Package Specification; ComponentLink3URL: http://www.infineon.com/dgdl/PG-VQFN-48-15%2C-19%2C-20%2C-22%2C-24%2C-48%2C-51%2C-52%2C-53%2C-54%2C-55%2C-56%2C-57-Package_Overview.pdf?folderId=db3a304319c6f18c0119e80a8f2559bf&fileId=db3a304319c6f18c011a0b8b18c33200
footprint INF-PG-VQFN-48-53-5200X5200TP_N (QFN, 48-Leads, Body 7x7mm, Pitch 0.5mm, Thermal Pad 5.2x5.2mm, IPC Medium Density)
footprint INF-PG-VQFN-48-53-5200X5200TP_L (QFN, 48-Leads, Body 7x7mm, Pitch 0.5mm, Thermal Pad 5.2x5.2mm, IPC High Density)
footprint INF-PG-VQFN-48-53-5200X5200TP_M (QFN, 48-Leads, Body 7x7mm, Pitch 0.5mm, Thermal Pad 5.2x5.2mm, IPC Low Density)
part A pins: 1 P0.1 (io), 2 P0.0 (io), 11 P14.7 (in), 12 P14.6 (in), 13 P14.5 (in), 14 P14.4 (in), 15 P14.3 (in), 16 P14.0 (in), 19 P14.9 (io), 20 P14.8 (io), 21 P2.5 (io), 22 P2.4 (io), 23 P2.3 (io), 24 P2.2 (io), 25 P2.1 (io), 26 P2.0 (io), 35 P1.5 (io), 36 P1.4 (io), 37 P1.3 (io), 38 P1.2 (io), 39 P1.1 (io), 40 P1.0 (io), 42 P0.8 (io), 43 P0.7 (io), 44 P0.6 (io), 45 P0.5 (io), 46 P0.4 (io), 47 P0.3 (io), 48 P0.2 (io)
part B pins: 3 USB_DM (io), 4 USB_DP (io), 7 HIB_IO_0 (io), 8 RTC_XTAL1 (in), 9 RTC_XTAL2, 29 XTAL1 (in), 30 XTAL2, 32 ~{PORST} (io), 33 TMS (io), 34 TCK (in)
part C pins: 5 VDDP (power), 6 VDDC (power), 10 VBAT (power), 17 VSSA/VAGND (power), 18 VDDA/VAREF (power), 27 VSS (power), 28 VDDP (power), 31 VDDC (power), 41 VDDP (power), 49 EP (power)

## XMC4200-F64F256 AB
designator U?
80 MHz XMC4200 MCU with 256 KByte Program Memory, 40 KByte SRAM, 3.3 V, -40 to 85 degC, PG-LQFP-64, Green; Manufacturer: Infineon; PartNumber: XMC4200-F64F256 AB; A / D input lines (incl. FADC): 9; Digital I/O Lines: 35; Program Memory: 256.0 KByte; SRAM (incl. Cache): 40.0 KByte; Type of Serial I/O Interfaces: 4xSPI, Dual SPI, Quad SPI, UART, LIN, IIC, IIS; DatasheetVersion: V0.6; PackageVersion: V13; PackageReference: PG-LQFP-64-19; PackageDescription: 64-Pin Plastic (Green) Low Profile Quad Flat Package, 10 x 10 mm Body, 0.5 mm Pitch; Halogen-free: TRUE; Mounting Technology: Surface Mount; ComponentLink1Description: Manufacturer URL; ComponentLink1URL: http://www.infineon.com; ComponentLink2Description: Datasheet; ComponentLink2URL: http://www.infineon.com/dgdl/xmc4100_xmc4200_ds_v0.6_2012_11.pdf?folderId=db3a30433580b3710135a47f3eb76c98&fileId=db3a30433afc7e3e013b3cf9b2816573&location=en.Products.Microcontrollers.32-bit_Industrial_Microcontrollers_based_on_ARM__Cortex_-M.32-bit_XMC4000_Industrial_Microcontrollers_ARM__Cortex_-M4.DATASHEET.xmc4100_xmc4200_ds_v0.6_2012_11.pdf; ComponentLink3Description: Package Specification; ComponentLink3URL: http://www.infineon.com/dgdl/xmc4100_xmc4200_ds_v0.6_2012_11.pdf?folderId=db3a30433580b3710135a47f3eb76c98&fileId=db3a30433afc7e3e013b3cf9b2816573&location=en.Products.Microcontrollers.32-bit_Industrial_Microcontrollers_based_on_ARM__Cortex_-M.32-bit_XMC4000_Industrial_Microcontrollers_ARM__Cortex_-M4.DATASHEET.xmc4100_xmc4200_ds_v0.6_2012_11.pdf
footprint INF-PG-LQFP-64-19-5800X5800TP_N (QFP, 64-Leads, Body 10x10mm, Pitch 0.5mm, Thermal Pad 5.8x5.8mm, IPC Medium Density)
footprint INF-PG-LQFP-64-19-5800X5800TP_L (QFP, 64-Leads, Body 10x10mm, Pitch 0.5mm, Thermal Pad 5.8x5.8mm, IPC High Density)
footprint INF-PG-LQFP-64-19-5800X5800TP_M (QFP, 64-Leads, Body 10x10mm, Pitch 0.5mm, Thermal Pad 5.8x5.8mm, IPC Low Density)
part A pins: 1 P0.1 (io), 2 P0.0 (io), 3 P0.10 (io), 4 P0.9 (io), 5 P3.0 (io), 14 P14.14 (in), 15 P14.7 (in), 16 P14.6 (in), 17 P14.5 (in), 18 P14.4 (in), 19 P14.3 (in), 20 P14.0 (in), 23 P14.9 (io), 24 P14.8 (io), 25 P2.15 (io), 26 P2.14 (io), 27 P2.9 (io), 28 P2.8 (io), 29 P2.5 (io), 30 P2.4 (io), 31 P2.3 (io), 32 P2.2 (io), 33 P2.1 (io), 34 P2.0 (io), 35 P2.7 (io), 36 P2.6 (io), 46 P1.15 (io), 47 P1.5 (io), 48 P1.4 (io), 49 P1.3 (io), 50 P1.2 (io), 51 P1.1 (io), 52 P1.0 (io), 53 P1.9 (io), 54 P1.8 (io), 55 P1.7 (io), 57 P0.8 (io), 58 P0.7 (io), 59 P0.11 (io), 60 P0.6 (io), 61 P0.5 (io), 62 P0.4 (io), 63 P0.3 (io), 64 P0.2 (io)
part B pins: 6 USB_DM (io), 7 USB_DP (io), 10 HIB_IO_0 (io), 11 RTC_XTAL1 (in), 12 RTC_XTAL2, 39 XTAL1 (in), 40 XTAL2, 43 ~{PORST} (io), 44 TMS (io), 45 TCK (in)
part C pins: 8 VDDP (power), 9 VDDC (power), 13 VBAT (power), 21 VSSA/VAGND (power), 22 VDDA/VAREF (power), 37 VSS (power), 38 VDDP (power), 41 VSSO (power), 42 VDDC (power), 56 VDDP (power), 65 EP (power)

## XMC4200-F64K256 AB
designator U?
80 MHz XMC4200 MCU with 256 KByte Program Memory, 40 KByte SRAM, 3.3 V, -40 to 125 degC, PG-LQFP-64, Green; Manufacturer: Infineon; PartNumber: XMC4200-F64K256 AB; A / D input lines (incl. FADC): 9; Digital I/O Lines: 35; Program Memory: 256.0 KByte; SRAM (incl. Cache): 40.0 KByte; Type of Serial I/O Interfaces: 4xSPI, Dual SPI, Quad SPI, UART, LIN, IIC, IIS; DatasheetVersion: V0.6; PackageVersion: V13; PackageReference: PG-LQFP-64-19; PackageDescription: 64-Pin Plastic (Green) Low Profile Quad Flat Package, 10 x 10 mm Body, 0.5 mm Pitch; Halogen-free: TRUE; Mounting Technology: Surface Mount; ComponentLink1Description: Manufacturer URL; ComponentLink1URL: http://www.infineon.com; ComponentLink2Description: Datasheet; ComponentLink2URL: http://www.infineon.com/dgdl/xmc4100_xmc4200_ds_v0.6_2012_11.pdf?folderId=db3a30433580b3710135a47f3eb76c98&fileId=db3a30433afc7e3e013b3cf9b2816573&location=en.Products.Microcontrollers.32-bit_Industrial_Microcontrollers_based_on_ARM__Cortex_-M.32-bit_XMC4000_Industrial_Microcontrollers_ARM__Cortex_-M4.DATASHEET.xmc4100_xmc4200_ds_v0.6_2012_11.pdf; ComponentLink3Description: Package Specification; ComponentLink3URL: http://www.infineon.com/dgdl/xmc4100_xmc4200_ds_v0.6_2012_11.pdf?folderId=db3a30433580b3710135a47f3eb76c98&fileId=db3a30433afc7e3e013b3cf9b2816573&location=en.Products.Microcontrollers.32-bit_Industrial_Microcontrollers_based_on_ARM__Cortex_-M.32-bit_XMC4000_Industrial_Microcontrollers_ARM__Cortex_-M4.DATASHEET.xmc4100_xmc4200_ds_v0.6_2012_11.pdf
footprint INF-PG-LQFP-64-19-5800X5800TP_N (QFP, 64-Leads, Body 10x10mm, Pitch 0.5mm, Thermal Pad 5.8x5.8mm, IPC Medium Density)
footprint INF-PG-LQFP-64-19-5800X5800TP_L (QFP, 64-Leads, Body 10x10mm, Pitch 0.5mm, Thermal Pad 5.8x5.8mm, IPC High Density)
footprint INF-PG-LQFP-64-19-5800X5800TP_M (QFP, 64-Leads, Body 10x10mm, Pitch 0.5mm, Thermal Pad 5.8x5.8mm, IPC Low Density)
part A pins: 1 P0.1 (io), 2 P0.0 (io), 3 P0.10 (io), 4 P0.9 (io), 5 P3.0 (io), 14 P14.14 (in), 15 P14.7 (in), 16 P14.6 (in), 17 P14.5 (in), 18 P14.4 (in), 19 P14.3 (in), 20 P14.0 (in), 23 P14.9 (io), 24 P14.8 (io), 25 P2.15 (io), 26 P2.14 (io), 27 P2.9 (io), 28 P2.8 (io), 29 P2.5 (io), 30 P2.4 (io), 31 P2.3 (io), 32 P2.2 (io), 33 P2.1 (io), 34 P2.0 (io), 35 P2.7 (io), 36 P2.6 (io), 46 P1.15 (io), 47 P1.5 (io), 48 P1.4 (io), 49 P1.3 (io), 50 P1.2 (io), 51 P1.1 (io), 52 P1.0 (io), 53 P1.9 (io), 54 P1.8 (io), 55 P1.7 (io), 57 P0.8 (io), 58 P0.7 (io), 59 P0.11 (io), 60 P0.6 (io), 61 P0.5 (io), 62 P0.4 (io), 63 P0.3 (io), 64 P0.2 (io)
part B pins: 6 USB_DM (io), 7 USB_DP (io), 10 HIB_IO_0 (io), 11 RTC_XTAL1 (in), 12 RTC_XTAL2, 39 XTAL1 (in), 40 XTAL2, 43 ~{PORST} (io), 44 TMS (io), 45 TCK (in)
part C pins: 8 VDDP (power), 9 VDDC (power), 13 VBAT (power), 21 VSSA/VAGND (power), 22 VDDA/VAREF (power), 37 VSS (power), 38 VDDP (power), 41 VSSO (power), 42 VDDC (power), 56 VDDP (power), 65 EP (power)

## XMC4200-Q48F256 AB
designator U?
80 MHz XMC4200 MCU with 256 KByte Program Memory, 40 KByte SRAM, 3.3 V, -40 to 85 degC, PG-VQFN-48, Green; Manufacturer: Infineon; PartNumber: XMC4200-Q48F256 AB; A / D input lines (incl. FADC): 8; Digital I/O Lines: 21; Program Memory: 256.0 KByte; SRAM (incl. Cache): 40.0 KByte; Type of Serial I/O Interfaces: 4xSPI, Dual SPI, Quad SPI, UART, LIN, IIC, IIS; DatasheetVersion: V0.6; PackageVersion: V0.6; PackageReference: PG-VQFN-48-53; PackageDescription: 48-Pin Plastic (Green) Very Thin Profile Quad Flat Non Leaded Package, 7 x 7 mm Body, 0.5 mm Pitch; Halogen-free: TRUE; Mounting Technology: Surface Mount; ComponentLink1Description: Manufacturer URL; ComponentLink1URL: http://www.infineon.com; ComponentLink2Description: Datasheet; ComponentLink2URL: http://www.infineon.com/dgdl/xmc4100_xmc4200_ds_v0.6_2012_11.pdf?folderId=db3a30433580b3710135a47f3eb76c98&fileId=db3a30433afc7e3e013b3cf9b2816573&location=en.Products.Microcontrollers.32-bit_Industrial_Microcontrollers_based_on_ARM__Cortex_-M.32-bit_XMC4000_Industrial_Microcontrollers_ARM__Cortex_-M4.DATASHEET.xmc4100_xmc4200_ds_v0.6_2012_11.pdf; ComponentLink3Description: Package Specification; ComponentLink3URL: http://www.infineon.com/dgdl/PG-VQFN-48-15%2C-19%2C-20%2C-22%2C-24%2C-48%2C-51%2C-52%2C-53%2C-54%2C-55%2C-56%2C-57-Package_Overview.pdf?folderId=db3a304319c6f18c0119e80a8f2559bf&fileId=db3a304319c6f18c011a0b8b18c33200
footprint INF-PG-VQFN-48-53-5200X5200TP_N (QFN, 48-Leads, Body 7x7mm, Pitch 0.5mm, Thermal Pad 5.2x5.2mm, IPC Medium Density)
footprint INF-PG-VQFN-48-53-5200X5200TP_L (QFN, 48-Leads, Body 7x7mm, Pitch 0.5mm, Thermal Pad 5.2x5.2mm, IPC High Density)
footprint INF-PG-VQFN-48-53-5200X5200TP_M (QFN, 48-Leads, Body 7x7mm, Pitch 0.5mm, Thermal Pad 5.2x5.2mm, IPC Low Density)
part A pins: 1 P0.1 (io), 2 P0.0 (io), 11 P14.7 (in), 12 P14.6 (in), 13 P14.5 (in), 14 P14.4 (in), 15 P14.3 (in), 16 P14.0 (in), 19 P14.9 (io), 20 P14.8 (io), 21 P2.5 (io), 22 P2.4 (io), 23 P2.3 (io), 24 P2.2 (io), 25 P2.1 (io), 26 P2.0 (io), 35 P1.5 (io), 36 P1.4 (io), 37 P1.3 (io), 38 P1.2 (io), 39 P1.1 (io), 40 P1.0 (io), 42 P0.8 (io), 43 P0.7 (io), 44 P0.6 (io), 45 P0.5 (io), 46 P0.4 (io), 47 P0.3 (io), 48 P0.2 (io)
part B pins: 3 USB_DM (io), 4 USB_DP (io), 7 HIB_IO_0 (io), 8 RTC_XTAL1 (in), 9 RTC_XTAL2, 29 XTAL1 (in), 30 XTAL2, 32 ~{PORST} (io), 33 TMS (io), 34 TCK (in)
part C pins: 5 VDDP (power), 6 VDDC (power), 10 VBAT (power), 17 VSSA/VAGND (power), 18 VDDA/VAREF (power), 27 VSS (power), 28 VDDP (power), 31 VDDC (power), 41 VDDP (power), 49 EP (power)

## XMC4200-Q48K256 AB
designator U?
80 MHz XMC4200 MCU with 256 KByte Program Memory, 40 KByte SRAM, 3.3 V, -40 to 125 degC, PG-VQFN-48, Green; Manufacturer: Infineon; PartNumber: XMC4200-Q48K256 AB; A / D input lines (incl. FADC): 8; Digital I/O Lines: 21; Program Memory: 256.0 KByte; SRAM (incl. Cache): 40.0 KByte; Type of Serial I/O Interfaces: 4xSPI, Dual SPI, Quad SPI, UART, LIN, IIC, IIS; DatasheetVersion: V0.6; PackageVersion: V0.6; PackageReference: PG-VQFN-48-53; PackageDescription: 48-Pin Plastic (Green) Very Thin Profile Quad Flat Non Leaded Package, 7 x 7 mm Body, 0.5 mm Pitch; Halogen-free: TRUE; Mounting Technology: Surface Mount; ComponentLink1Description: Manufacturer URL; ComponentLink1URL: http://www.infineon.com; ComponentLink2Description: Datasheet; ComponentLink2URL: http://www.infineon.com/dgdl/xmc4100_xmc4200_ds_v0.6_2012_11.pdf?folderId=db3a30433580b3710135a47f3eb76c98&fileId=db3a30433afc7e3e013b3cf9b2816573&location=en.Products.Microcontrollers.32-bit_Industrial_Microcontrollers_based_on_ARM__Cortex_-M.32-bit_XMC4000_Industrial_Microcontrollers_ARM__Cortex_-M4.DATASHEET.xmc4100_xmc4200_ds_v0.6_2012_11.pdf; ComponentLink3Description: Package Specification; ComponentLink3URL: http://www.infineon.com/dgdl/PG-VQFN-48-15%2C-19%2C-20%2C-22%2C-24%2C-48%2C-51%2C-52%2C-53%2C-54%2C-55%2C-56%2C-57-Package_Overview.pdf?folderId=db3a304319c6f18c0119e80a8f2559bf&fileId=db3a304319c6f18c011a0b8b18c33200
footprint INF-PG-VQFN-48-53-5200X5200TP_N (QFN, 48-Leads, Body 7x7mm, Pitch 0.5mm, Thermal Pad 5.2x5.2mm, IPC Medium Density)
footprint INF-PG-VQFN-48-53-5200X5200TP_L (QFN, 48-Leads, Body 7x7mm, Pitch 0.5mm, Thermal Pad 5.2x5.2mm, IPC High Density)
footprint INF-PG-VQFN-48-53-5200X5200TP_M (QFN, 48-Leads, Body 7x7mm, Pitch 0.5mm, Thermal Pad 5.2x5.2mm, IPC Low Density)
part A pins: 1 P0.1 (io), 2 P0.0 (io), 11 P14.7 (in), 12 P14.6 (in), 13 P14.5 (in), 14 P14.4 (in), 15 P14.3 (in), 16 P14.0 (in), 19 P14.9 (io), 20 P14.8 (io), 21 P2.5 (io), 22 P2.4 (io), 23 P2.3 (io), 24 P2.2 (io), 25 P2.1 (io), 26 P2.0 (io), 35 P1.5 (io), 36 P1.4 (io), 37 P1.3 (io), 38 P1.2 (io), 39 P1.1 (io), 40 P1.0 (io), 42 P0.8 (io), 43 P0.7 (io), 44 P0.6 (io), 45 P0.5 (io), 46 P0.4 (io), 47 P0.3 (io), 48 P0.2 (io)
part B pins: 3 USB_DM (io), 4 USB_DP (io), 7 HIB_IO_0 (io), 8 RTC_XTAL1 (in), 9 RTC_XTAL2, 29 XTAL1 (in), 30 XTAL2, 32 ~{PORST} (io), 33 TMS (io), 34 TCK (in)
part C pins: 5 VDDP (power), 6 VDDC (power), 10 VBAT (power), 17 VSSA/VAGND (power), 18 VDDA/VAREF (power), 27 VSS (power), 28 VDDP (power), 31 VDDC (power), 41 VDDP (power), 49 EP (power)

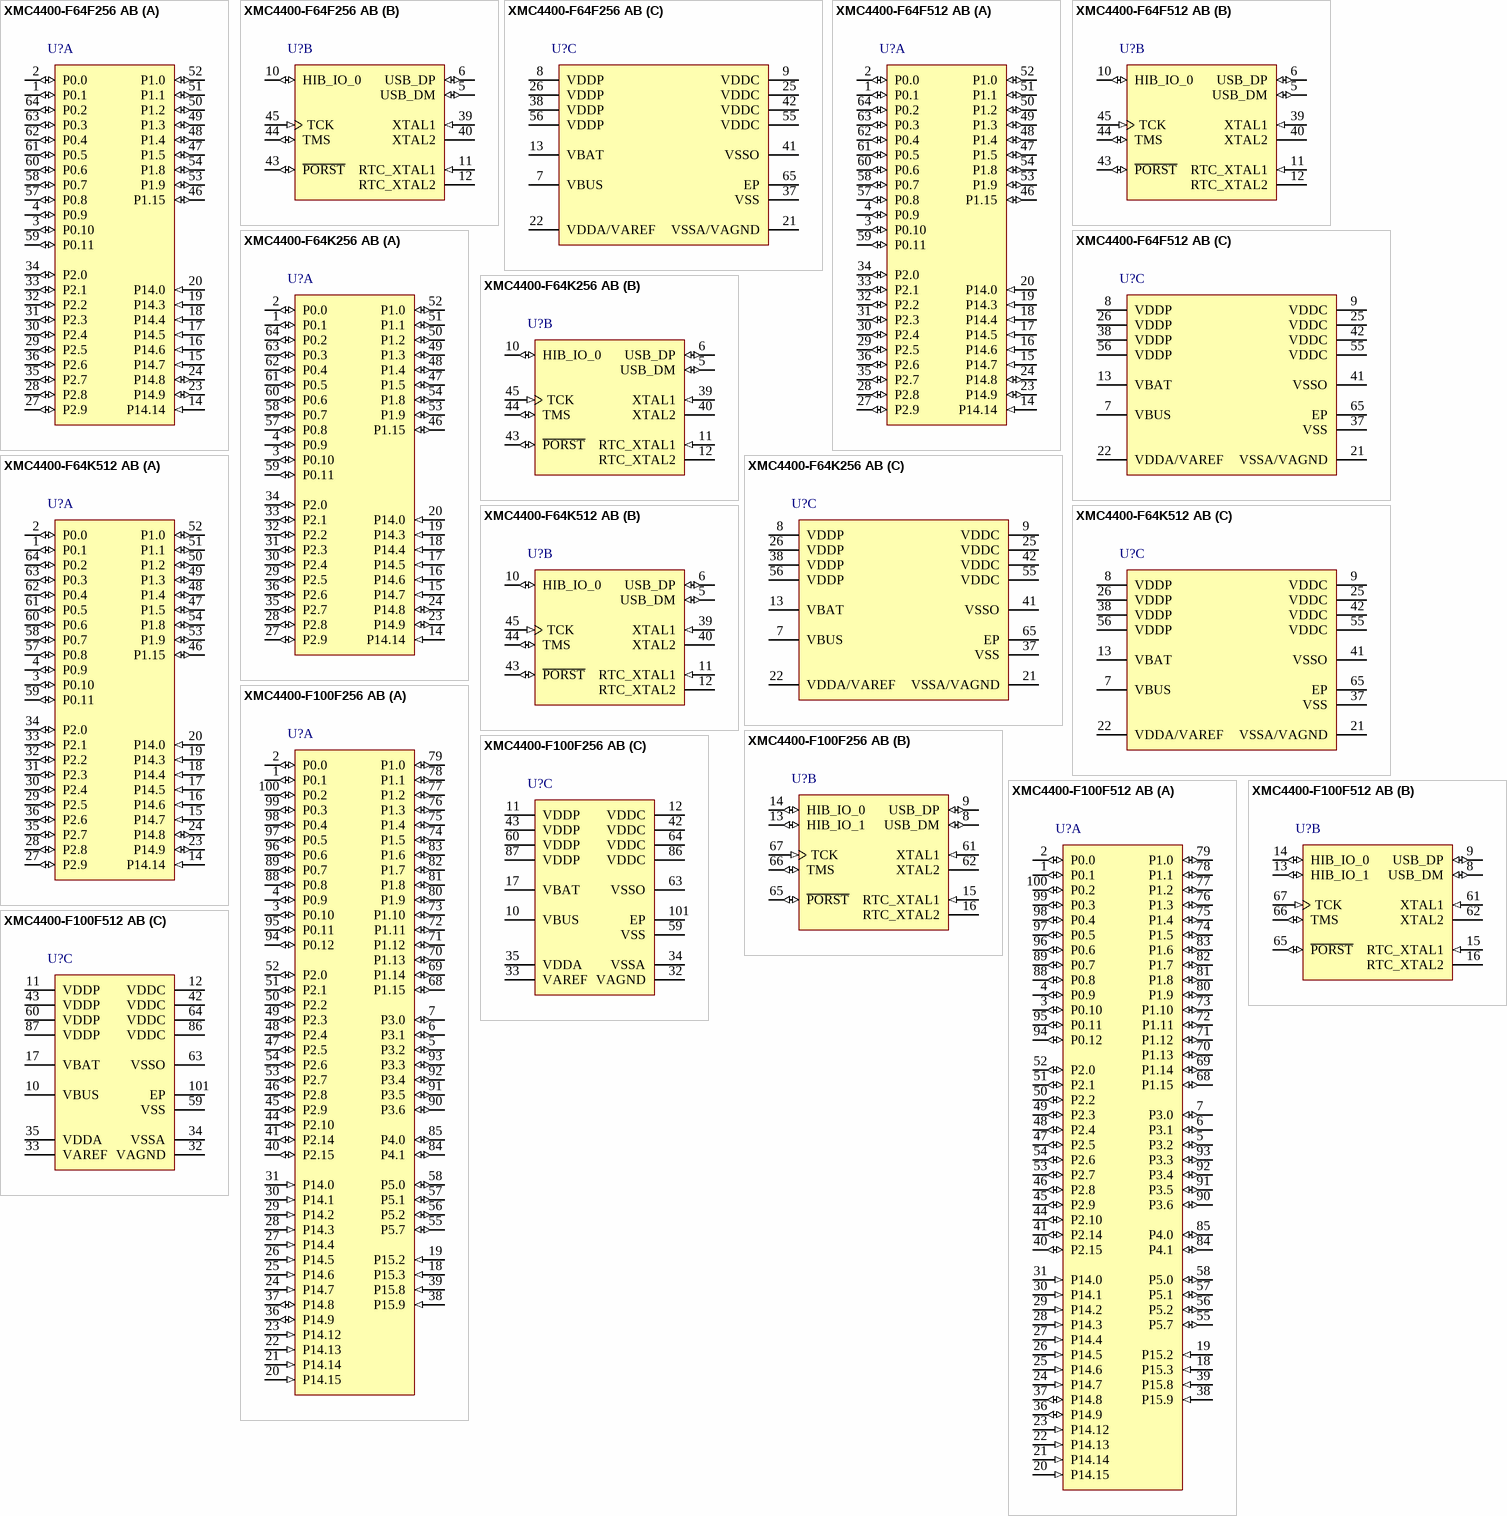
[diagram p2: symbols XMC4400-F64F256 AB to XMC4400-F100F512 AB]

## XMC4400-F64F256 AB
designator U?
120 MHz XMC4400 MCU with 256 KByte Program Memory, 80 KByte SRAM, 3.3 V, -40 to 85 degC, PG-LQFP-64, Green; Manufacturer: Infineon; PartNumber: XMC4400-F64F256 AB; A / D input lines (incl. FADC): 9; Digital I/O Lines: 31; Program Memory: 256.0 KByte; SRAM (incl. Cache): 80.0 KByte; Type of Serial I/O Interfaces: 4xSPI, Dual SPI, Quad SPI, UART, LIN, IIC, IIS; DatasheetVersion: V0.6; PackageVersion: V13; PackageReference: PG-LQFP-64-19; PackageDescription: 64-Pin Plastic (Green) Low Profile Quad Flat Package, 10 x 10 mm Body, 0.5 mm Pitch; Halogen-free: TRUE; Mounting Technology: Surface Mount; ComponentLink1Description: Manufacturer URL; ComponentLink1URL: http://www.infineon.com; ComponentLink2Description: Datasheet; ComponentLink2URL: http://www.infineon.com/dgdl/xmc4400_ds_v0.6_2012_11_.pdf?folderId=db3a30433580b3710135a47f3eb76c98&fileId=db3a30433afc7e3e013b3cfb455565a3&location=en.Products.Microcontrollers.32-bit_Industrial_Microcontrollers_based_on_ARM__Cortex_-M.32-bit_XMC4000_Industrial_Microcontrollers_ARM__Cortex_-M4.DATASHEET.xmc4400_ds_v0.6_2012_11_.pdf; ComponentLink3Description: Package Specification; ComponentLink3URL: http://www.infineon.com/dgdl/xmc4100_xmc4200_ds_v0.6_2012_11.pdf?folderId=db3a30433580b3710135a47f3eb76c98&fileId=db3a30433afc7e3e013b3cf9b2816573&location=en.Products.Microcontrollers.32-bit_Industrial_Microcontrollers_based_on_ARM__Cortex_-M.32-bit_XMC4000_Industrial_Microcontrollers_ARM__Cortex_-M4.DATASHEET.xmc4100_xmc4200_ds_v0.6_2012_11.pdf
footprint INF-PG-LQFP-64-19-5800X5800TP_N (QFP, 64-Leads, Body 10x10mm, Pitch 0.5mm, Thermal Pad 5.8x5.8mm, IPC Medium Density)
footprint INF-PG-LQFP-64-19-5800X5800TP_L (QFP, 64-Leads, Body 10x10mm, Pitch 0.5mm, Thermal Pad 5.8x5.8mm, IPC High Density)
footprint INF-PG-LQFP-64-19-5800X5800TP_M (QFP, 64-Leads, Body 10x10mm, Pitch 0.5mm, Thermal Pad 5.8x5.8mm, IPC Low Density)
part A pins: 1 P0.1 (io), 2 P0.0 (io), 3 P0.10 (io), 4 P0.9 (io), 14 P14.14 (in), 15 P14.7 (in), 16 P14.6 (in), 17 P14.5 (in), 18 P14.4 (in), 19 P14.3 (in), 20 P14.0 (in), 23 P14.9 (io), 24 P14.8 (io), 27 P2.9 (io), 28 P2.8 (io), 29 P2.5 (io), 30 P2.4 (io), 31 P2.3 (io), 32 P2.2 (io), 33 P2.1 (io), 34 P2.0 (io), 35 P2.7 (io), 36 P2.6 (io), 46 P1.15 (io), 47 P1.5 (io), 48 P1.4 (io), 49 P1.3 (io), 50 P1.2 (io), 51 P1.1 (io), 52 P1.0 (io), 53 P1.9 (io), 54 P1.8 (io), 57 P0.8 (io), 58 P0.7 (io), 59 P0.11 (io), 60 P0.6 (io), 61 P0.5 (io), 62 P0.4 (io), 63 P0.3 (io), 64 P0.2 (io)
part B pins: 5 USB_DM (io), 6 USB_DP (io), 10 HIB_IO_0 (io), 11 RTC_XTAL1 (in), 12 RTC_XTAL2, 39 XTAL1 (in), 40 XTAL2, 43 ~{PORST} (io), 44 TMS (io), 45 TCK (in)
part C pins: 7 VBUS (power), 8 VDDP (power), 9 VDDC (power), 13 VBAT (power), 21 VSSA/VAGND (power), 22 VDDA/VAREF (power), 25 VDDC (power), 26 VDDP (power), 37 VSS (power), 38 VDDP (power), 41 VSSO (power), 42 VDDC (power), 55 VDDC (power), 56 VDDP (power), 65 EP (power)